# EAGLE library part 1XRJ45_MM_JACK (library MagJack)
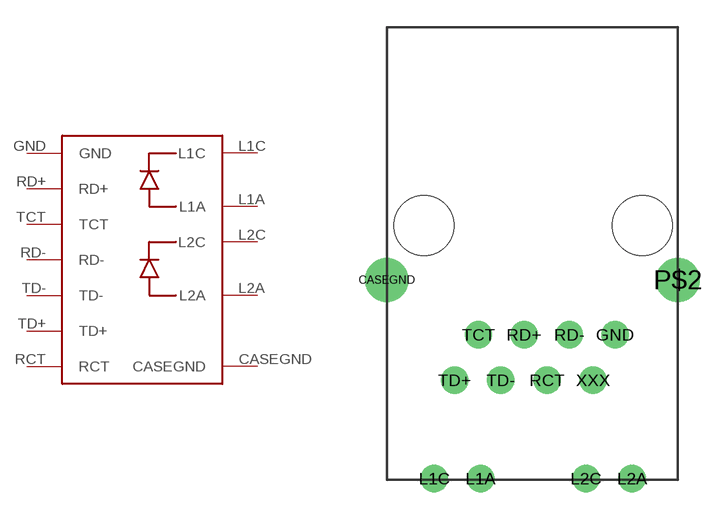
[diagram p0: symbol with the pads of 1XRJ45_MM_JACK; footprint 1XRJ45_MM_JACK]

Designator prefix -

## 1XRJ45_MM_JACK  [1XRJ45_MM_JACK]
CASEGND  CASEGND
GND  GND
L1A  L1A
L1C  L1C
L2A  L2A
L2C  L2C
RCT  RCT
RD+  RD+
RD-  RD-
TCT  TCT
TD+  TD+
TD-  TD-

## Footprint 1XRJ45_MM_JACK (pad centres in mm)
drill 1.6 round: CASEGND -8.05,-3; P$2 7.95,-3
drill 1 round: GND 4.495,-6.01; L1A -2.9,-13.92; L1C -5.44,-13.92; L2A 5.44,-13.92; L2C 2.9,-13.92; RCT 0.755,-8.51; RD+ -0.505,-6.01; RD- 1.985,-6.01; TCT -3.015,-6.01; TD+ -4.325,-8.51; TD- -1.785,-8.51; XXX 3.295,-8.51
hole 3.3 at 6,0
hole 3.3 at -6,0